# Altium schematic symbol library electrode_module3.3-cache.SchLib: 12 symbols
Pins are listed as number, name and electrical type; pins without a type are passive.

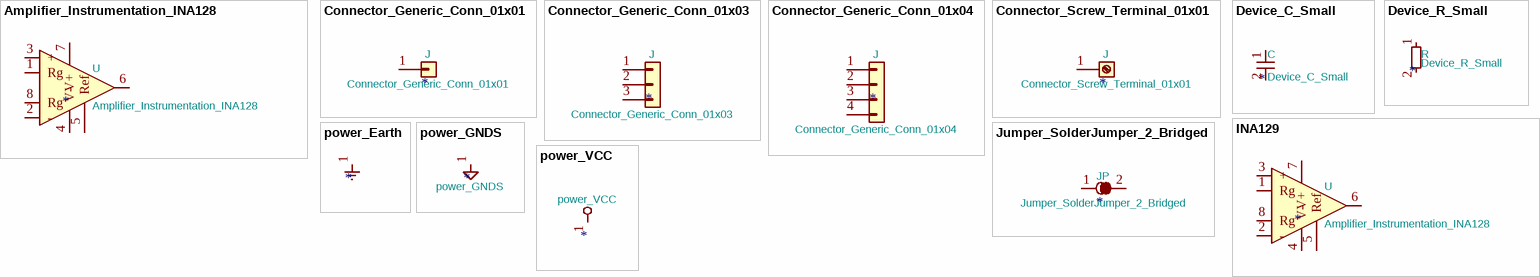
[diagram p0: symbols Amplifier_Instrumentation_INA128 to power_VCC]

## Amplifier_Instrumentation_INA128
designator U  value Amplifier_Instrumentation_INA128
pins: 1 Rg, 2 -, 3 +, 4 V-, 5 Ref, 6, 7 V+, 8 Rg

## Connector_Generic_Conn_01x01
designator J  value Connector_Generic_Conn_01x01
pins: 1 Pin_1

## Connector_Generic_Conn_01x03
designator J  value Connector_Generic_Conn_01x03
pins: 1 Pin_1, 2 Pin_2, 3 Pin_3

## Connector_Generic_Conn_01x04
designator J  value Connector_Generic_Conn_01x04
pins: 1 Pin_1, 2 Pin_2, 3 Pin_3, 4 Pin_4

## Connector_Screw_Terminal_01x01
designator J  value Connector_Screw_Terminal_01x01
pins: 1 Pin_1

## Device_C_Small
designator C  value Device_C_Small
pins: 1, 2

## Device_R_Small
designator R  value Device_R_Small
pins: 1, 2

## INA129
designator U  value Amplifier_Instrumentation_INA128
pins: 1 Rg, 2 -, 3 +, 4 V-, 5 Ref, 6, 7 V+, 8 Rg

## Jumper_SolderJumper_2_Bridged
designator JP  value Jumper_SolderJumper_2_Bridged
pins: 1 A, 2 B

## power_Earth
designator #PWR
Value: power_Earth
pins: 1 Earth

## power_GNDS
designator #PWR  value power_GNDS
pins: 1 GNDS

## power_VCC
designator #PWR  value power_VCC
pins: 1 VCC